# EAGLE library part MICROSD_SPARKFUN_LEVEL_SHIFTING_MODULE (library MODULOS_MICROSD)
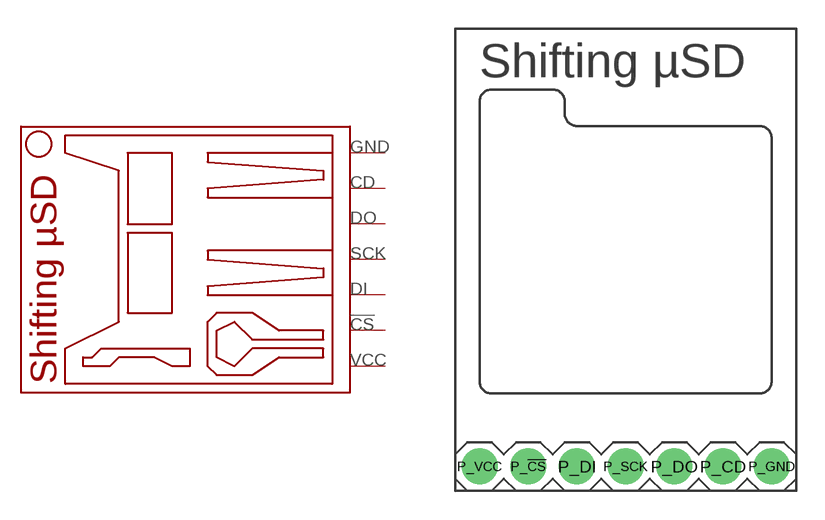
[diagram p0: symbol with the pads of MICROSD_SPARKFUN_LEVEL_SHFTING_MODULE; footprint MICROSD_SPARKFUN_LEVEL_SHFTING_MODULE]

Designator prefix MODULE

## MICROSD_SPARKFUN_LEVEL_SHIFTING_MODULE  [MICROSD_SPARKFUN_LEVEL_SHFTING_MODULE]
P_!CS  P_!CS
P_CD  P_CD
P_DI  P_DI
P_DO  P_DO
P_GND  GND
P_SCK  P_SCK
P_VCC  P_VCC

## Footprint MICROSD_SPARKFUN_LEVEL_SHFTING_MODULE (pad centres in mm)
drill 1.016 pad 1.88: P_!CS 3.81,1.27; P_CD 13.97,1.27; P_DI 6.35,1.27; P_DO 11.43,1.27; P_GND 16.51,1.27; P_SCK 8.89,1.27; P_VCC 1.27,1.27